# Altium schematic symbol library sensors.SchLib: 1 symbol
Pins are listed as number, name and electrical type; pins without a type are passive.

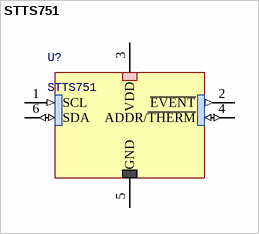
[diagram p0: symbol STTS751]

## STTS751
designator U?
2.25 V low-voltage local digital temperature sensor
footprint UDFN-6L
pins: 1 SCL (in), 2 ~{EVENT} (out), 3 VDD (power), 4 ADDR/~{THERM} (io), 5 GND (power), 6 SDA (io)